# EAGLE library part SIMM42 (library con-amp2)
AMP connector
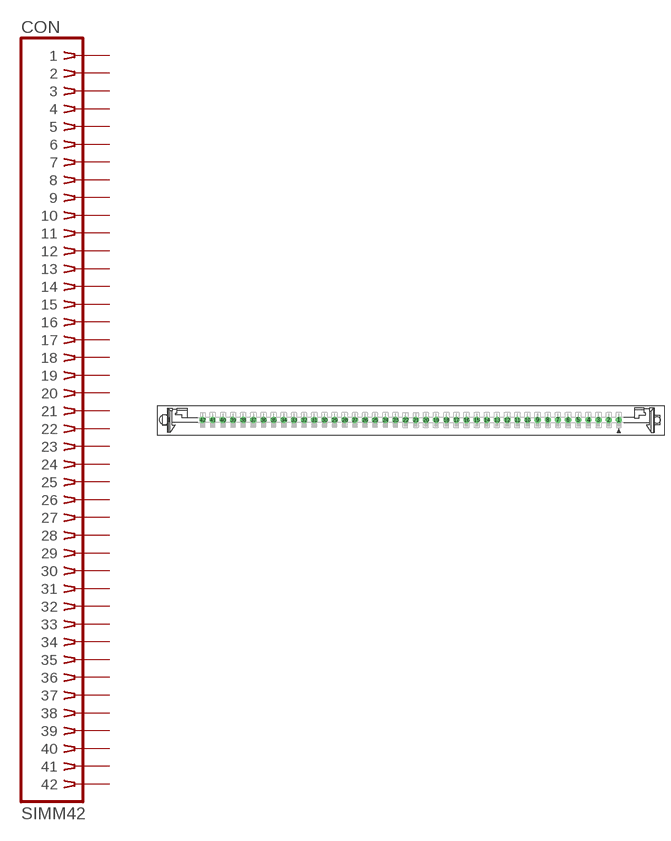
[diagram p8: symbol with the pads of SIMM42; footprint SIMM42]

Designator prefix CON

## SIMM42  [SIMM42]
1  1  pas
2  2  pas
3  3  pas
4  4  pas
5  5  pas
6  6  pas
7  7  pas
8  8  pas
9  9  pas
10  10  pas
11  11  pas
12  12  pas
13  13  pas
14  14  pas
15  15  pas
16  16  pas
17  17  pas
18  18  pas
19  19  pas
20  20  pas
21  21  pas
22  22  pas
23  23  pas
24  24  pas
25  25  pas
26  26  pas
27  27  pas
28  28  pas
29  29  pas
30  30  pas
31  31  pas
32  32  pas
33  33  pas
34  34  pas
35  35  pas
36  36  pas
37  37  pas
38  38  pas
39  39  pas
40  40  pas
41  41  pas
42  42  pas

## Footprint SIMM42 (pad centres in mm)
SIMM connector
drill 1.016 octagon: 1 52.07,0; 2 49.53,0; 3 46.99,0; 4 44.45,0; 5 41.91,0; 6 39.37,0; 7 36.83,0; 8 34.29,0; 9 31.75,0; 10 29.21,0; 11 26.67,0; 12 24.13,0; 13 21.59,0; 14 19.05,0; 15 16.51,0; 16 13.97,0; 17 11.43,0; 18 8.89,0; 19 6.35,0; 20 3.81,0; 21 1.27,0; 22 -1.27,0; 23 -3.81,0; 24 -6.35,0; 25 -8.89,0; 26 -11.43,0; 27 -13.97,0; 28 -16.51,0; 29 -19.05,0; 30 -21.59,0; 31 -24.13,0; 32 -26.67,0; 33 -29.21,0; 34 -31.75,0; 35 -34.29,0; 36 -36.83,0; 37 -39.37,0; 38 -41.91,0; 39 -44.45,0; 40 -46.99,0; 41 -49.53,0; 42 -52.07,0
hole 2.413 at -61.62,0.025
hole 1.6 at 61.595,0